# Altium footprint library OSRAM_LS Q976-NR-1.PcbLib: 1 footprints
Each footprint in its own frame and in the unit in brackets; x right, y up, seen from the top. Pads: shape width x height; smd on the part's side, far side on the other; paste and mask are expansions set on the pad; w line width, h text height; cw(c..) or ccw(c..) is an arc to the next point about the centre after c.
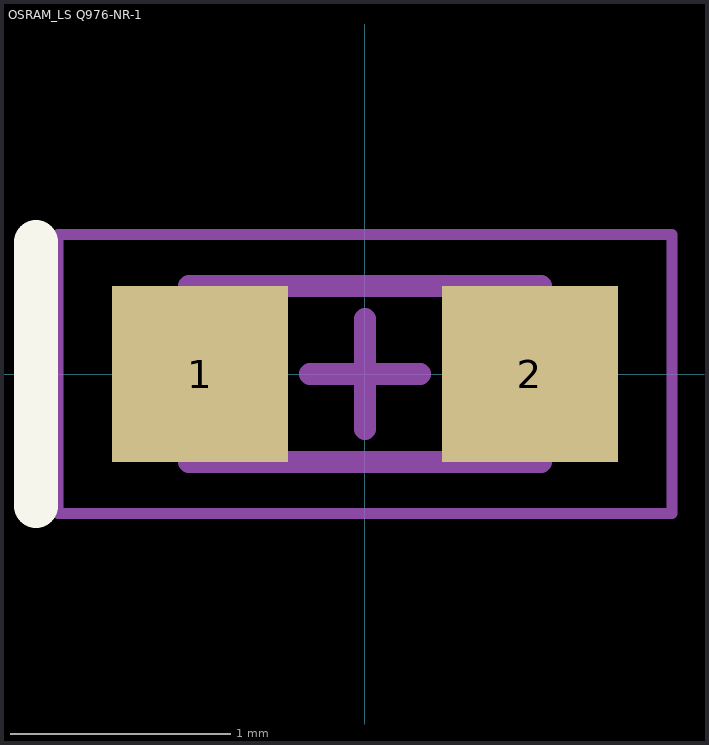
[diagram p0: the footprint, top view; thin cyan lines are the x and y axes]

## OSRAM_LS Q976-NR-1 [mm] "OSRAM_LS Q976-NR-1"
height 0.84
pads (2):
  rect 0.8x0.8 smd: 1(-0.75,0) 2(0.75,0)
Top Overlay:
  lines w0.2: -1.497,-0.6 -1.497,0.6
Mechanical 13:
  lines w0.1: -0.8,-0.4 0.8,-0.4 0.8,0.4 -0.8,0.4 -0.8,-0.4
Mechanical 15:
  lines w0.05: -1.397,-0.635 1.397,-0.635 1.397,0.635 -1.397,0.635 -1.397,-0.635
  lines w0.1: -0.25,0 0.25,0 ; 0,-0.25 0,0.25
3D body "OSRAM_LS_Q976.STEP": height 0.82, standoff 0.01, extent -0.8,-0.4 0.8,0.4